# EAGLE library part ADG706 (library graftel-internal-ic)
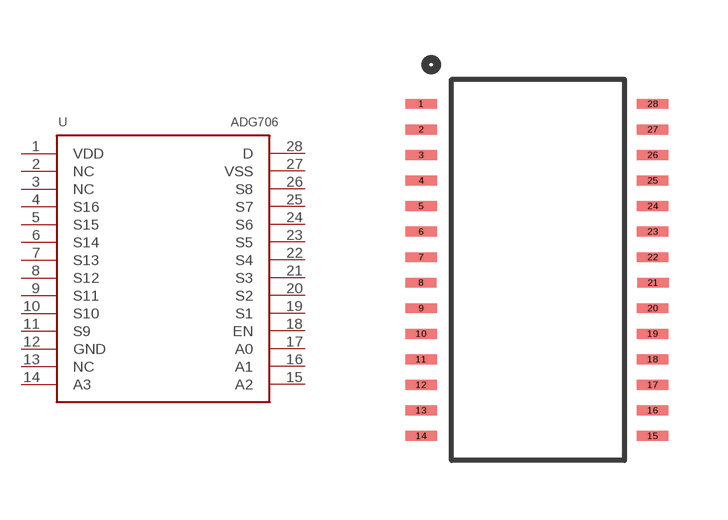
[diagram p33: symbol with the pads of TSSOP28; footprint TSSOP28]

Designator prefix U

## ADG706  [TSSOP28]
1  VDD
2  NC
3  NC
4  S16
5  S15
6  S14
7  S13
8  S12
9  S11
10  S10
11  S9
12  GND
13  NC
14  A3
15  A2
16  A1
17  A0
18  EN
19  S1
20  S2
21  S3
22  S4
23  S5
24  S6
25  S7
26  S8
27  VSS
28  D

## Footprint TSSOP28 (pad centres in mm)
smd 0.8 x 0.25: 1 -2.971,4.225; 2 -2.971,3.575; 3 -2.971,2.925; 4 -2.971,2.275; 5 -2.971,1.625; 6 -2.971,0.975; 7 -2.971,0.325; 8 -2.977,-0.325; 9 -2.971,-0.975; 10 -2.971,-1.625; 11 -2.971,-2.275; 12 -2.971,-2.925; 13 -2.971,-3.575; 14 -2.971,-4.225; 15 2.921,-4.225; 16 2.921,-3.575; 17 2.921,-2.925; 18 2.921,-2.275; 19 2.921,-1.625; 20 2.921,-0.975; 21 2.927,-0.325; 22 2.921,0.325; 23 2.921,0.975; 24 2.921,1.625; 25 2.921,2.275; 26 2.921,2.925; 27 2.921,3.575; 28 2.921,4.225